# Altium integrated library Dallas Power Mgt Supervisory Circuit.IntLib: 79 symbols (part 2 of 2)
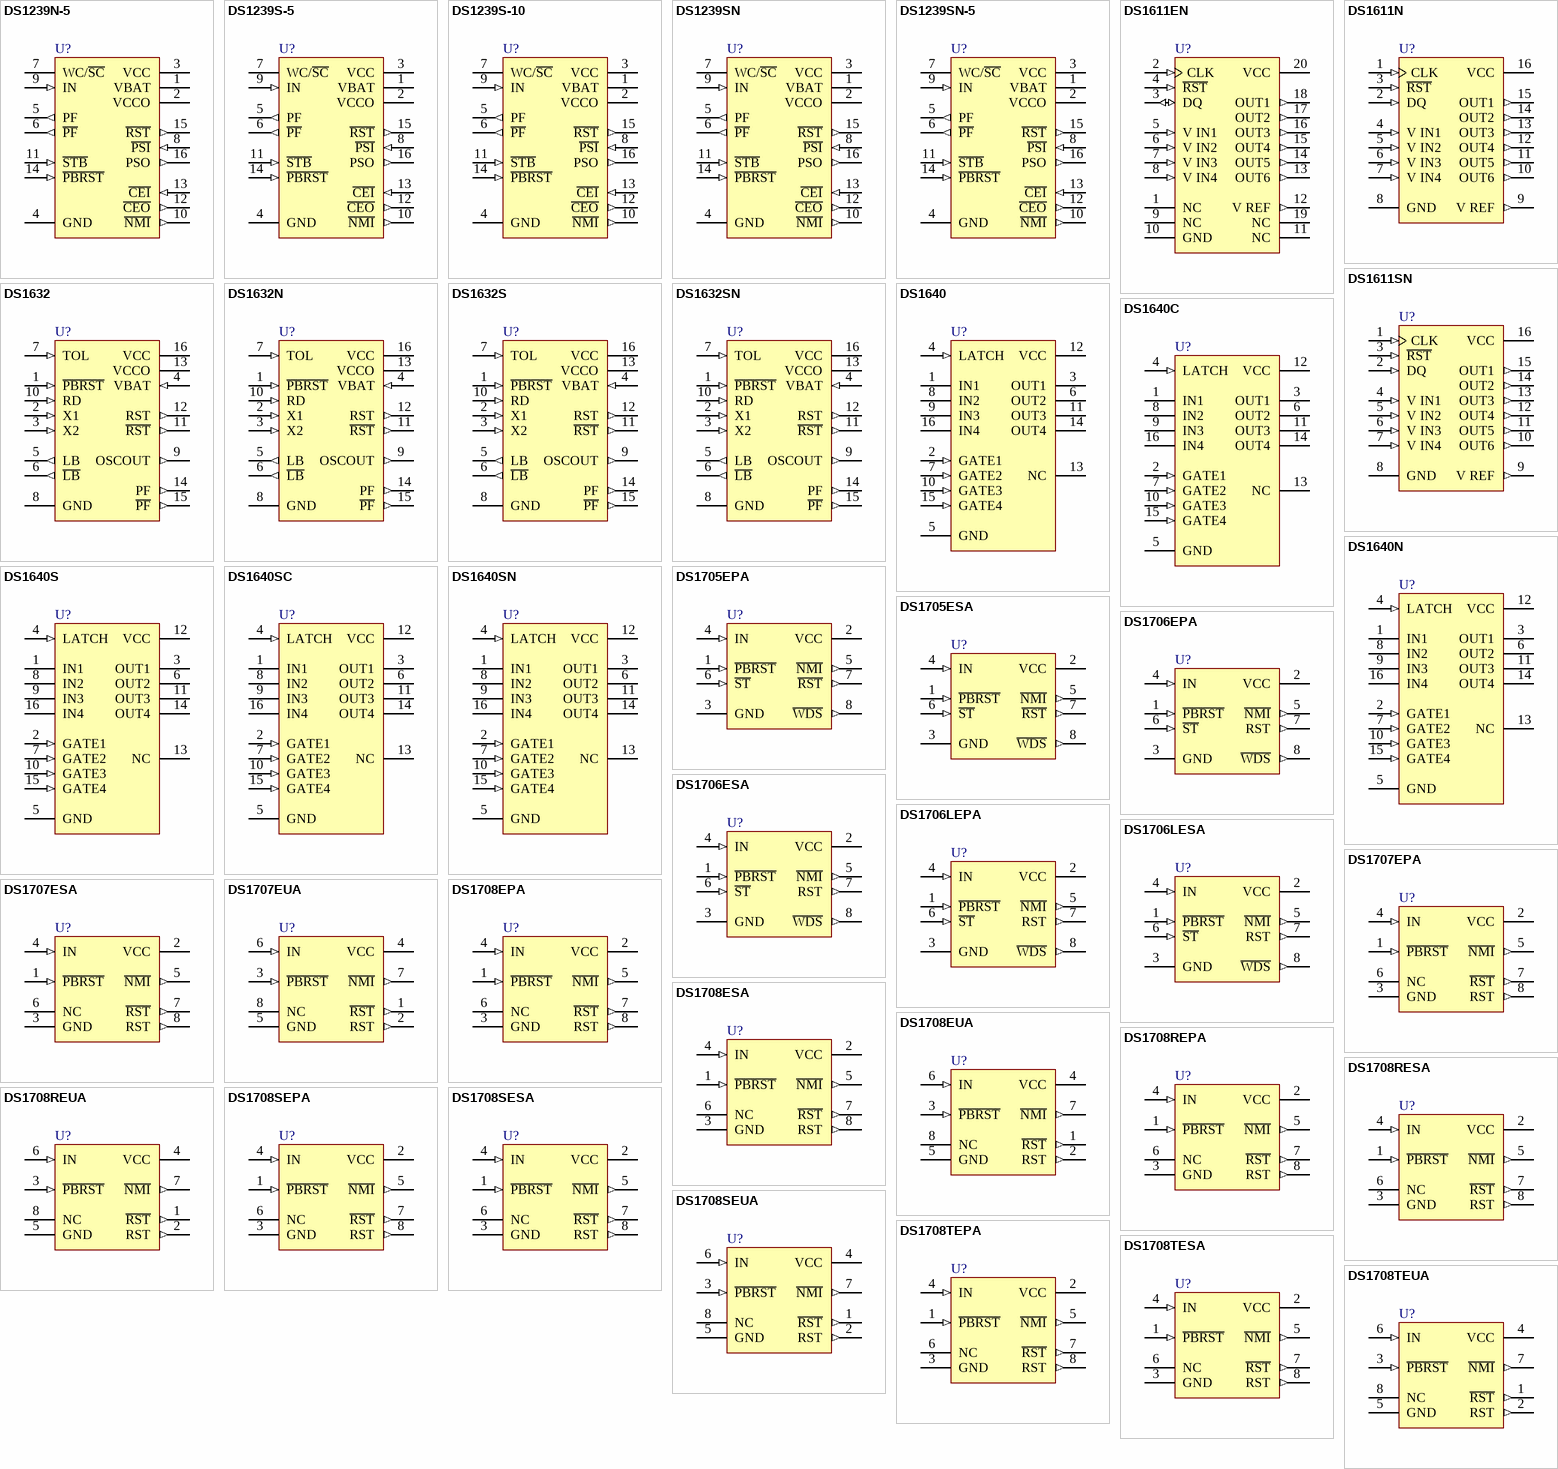
[diagram p2: symbols DS1239N-5 to DS1708TEUA]

## DS1640N
designator U?
Personal Computer Power FET; Note: Pin number 13 is Not Connected (NC); Published: 13-Oct-2000; LatestRevisionDate: 17-Jul-2002; LatestRevisionNote: Re-released for DXP Platform.; DatasheetVersion: 26-Feb-1998; PackageVersion: 1999; PackageReference: DIP16; Publisher: Altium Limited; PackageDescription: DIP, 16-Pin, Row Spacing 7.62 mm, Pitch 2.54 mm; ComponentLink1Description: Manufacturer Link; ComponentLink1URL: http://www.maxim-ic.com/; ComponentLink2Description: Datasheet; ComponentLink2URL: http://pdfserv.maxim-ic.com/en/ds/DS1640-DS1640C.pdf
footprint DIP16 (DIP, 16-Leads, Row Spacing 7.62mm, Pitch 2.54mm, Body 19.31x6.35mm)
pins: 1 IN1, 2 GATE1 (in), 3 OUT1, 4 LATCH (in), 5 GND (power), 6 OUT2, 7 GATE2 (in), 8 IN2, 9 IN3, 10 GATE3 (in), 11 OUT3, 12 VCC (power), 13 NC, 14 OUT4, 15 GATE4 (in), 16 IN4

## DS1640S
designator U?
Personal Computer Power FET; Note: Pin number 13 is Not Connected (NC); Published: 13-Oct-2000; LatestRevisionDate: 13-Apr-2006; LatestRevisionNote: IPC-7351 Footprint Added.; DatasheetVersion: 26-Feb-1998; PackageVersion: 1999; PackageReference: SOIC16W; Publisher: Altium Limited; PackageDescription: 16-Pin Small Outline Integrated Circuit 1.27 mm Pitch; ComponentLink1Description: Manufacturer Link; ComponentLink1URL: http://www.maxim-ic.com/; ComponentLink2Description: Datasheet; ComponentLink2URL: http://pdfserv.maxim-ic.com/en/ds/DS1640-DS1640C.pdf
footprint SOIC16W_N (SOIC, 16-Leads, Body 10.3x7.5mm, Pitch 1.27mm, IPC Medium Density)
footprint SOIC16W_L (SOIC, 16-Leads, Body 10.3x7.5mm, Pitch 1.27mm, IPC High Density)
footprint SOIC16W_M (SOIC, 16-Leads, Body 10.3x7.5mm, Pitch 1.27mm, IPC Low Density)
pins: 1 IN1, 2 GATE1 (in), 3 OUT1, 4 LATCH (in), 5 GND (power), 6 OUT2, 7 GATE2 (in), 8 IN2, 9 IN3, 10 GATE3 (in), 11 OUT3, 12 VCC (power), 13 NC, 14 OUT4, 15 GATE4 (in), 16 IN4

## DS1640SC
designator U?
Personal Computer Power FET; Note: Pin number 13 is Not Connected (NC); Published: 13-Oct-2000; LatestRevisionDate: 13-Apr-2006; LatestRevisionNote: IPC-7351 Footprint Added.; DatasheetVersion: 14-Feb-1992; PackageVersion: 1999; PackageReference: SOIC16W; Publisher: Altium Limited; PackageDescription: 16-Pin Small Outline Integrated Circuit 1.27 mm Pitch; ComponentLink1Description: Manufacturer Link; ComponentLink1URL: http://www.maxim-ic.com/; ComponentLink2Description: Datasheet; ComponentLink2URL: http://pdfserv.maxim-ic.com/en/ds/DS1640-DS1640C.pdf
footprint SOIC16W_N (SOIC, 16-Leads, Body 10.3x7.5mm, Pitch 1.27mm, IPC Medium Density)
footprint SOIC16W_L (SOIC, 16-Leads, Body 10.3x7.5mm, Pitch 1.27mm, IPC High Density)
footprint SOIC16W_M (SOIC, 16-Leads, Body 10.3x7.5mm, Pitch 1.27mm, IPC Low Density)
pins: 1 IN1, 2 GATE1 (in), 3 OUT1, 4 LATCH (in), 5 GND (power), 6 OUT2, 7 GATE2 (in), 8 IN2, 9 IN3, 10 GATE3 (in), 11 OUT3, 12 VCC (power), 13 NC, 14 OUT4, 15 GATE4 (in), 16 IN4

## DS1640SN
designator U?
Personal Computer Power FET; Note: Pin number 13 is Not Connected (NC); Published: 13-Oct-2000; LatestRevisionDate: 13-Apr-2006; LatestRevisionNote: IPC-7351 Footprint Added.; DatasheetVersion: 26-Feb-1998; PackageVersion: 1999; PackageReference: SOIC16W; Publisher: Altium Limited; PackageDescription: 16-Pin Small Outline Integrated Circuit 1.27 mm Pitch; ComponentLink1Description: Manufacturer Link; ComponentLink1URL: http://www.maxim-ic.com/; ComponentLink2Description: Datasheet; ComponentLink2URL: http://pdfserv.maxim-ic.com/en/ds/DS1640-DS1640C.pdf
footprint SOIC16W_N (SOIC, 16-Leads, Body 10.3x7.5mm, Pitch 1.27mm, IPC Medium Density)
footprint SOIC16W_L (SOIC, 16-Leads, Body 10.3x7.5mm, Pitch 1.27mm, IPC High Density)
footprint SOIC16W_M (SOIC, 16-Leads, Body 10.3x7.5mm, Pitch 1.27mm, IPC Low Density)
pins: 1 IN1, 2 GATE1 (in), 3 OUT1, 4 LATCH (in), 5 GND (power), 6 OUT2, 7 GATE2 (in), 8 IN2, 9 IN3, 10 GATE3 (in), 11 OUT3, 12 VCC (power), 13 NC, 14 OUT4, 15 GATE4 (in), 16 IN4

## DS1705EPA
designator U?
3.3 and 5.0 Volt MicroMonitor; Published: 13-Oct-2000; LatestRevisionDate: 17-Jul-2002; LatestRevisionNote: Re-released for DXP Platform.; DatasheetVersion: 4-Sep-1998; PackageVersion: 1999; PackageReference: DIP8; Publisher: Altium Limited; PackageDescription: DIP, 8-Pin, Row Spacing 7.62 mm, Pitch 2.54 mm; ComponentLink1Description: Manufacturer Link; ComponentLink1URL: http://www.maxim-ic.com/; ComponentLink2Description: Datasheet; ComponentLink2URL: http://www.maxim-ic.com/getds.cfm?qv_pk=2761&ln=en
footprint DIP8 (DIP, 8-Leads, Row Spacing 7.62mm, Pitch 2.54mm, Body 9.65x6.35mm)
pins: 1 ~{PBRST} (in), 2 VCC (power), 3 GND (power), 4 IN (in), 5 ~{NMI} (out), 6 ~{ST} (in), 7 ~{RST} (out), 8 ~{WDS} (out)

## DS1705ESA
designator U?
3.3 and 5.0 Volt MicroMonitor; Published: 13-Oct-2000; LatestRevisionDate: 13-Apr-2006; LatestRevisionNote: IPC-7351 Footprint Added.; DatasheetVersion: 4-Sep-1998; PackageVersion: 1999; PackageReference: SOIC8N; Publisher: Altium Limited; PackageDescription: 8-Pin Small Outline Integrated Circuit 1.27 mm Pitch; Code_IPC: SOIC127P600-8; ComponentLink1Description: Manufacturer Link; ComponentLink1URL: http://www.maxim-ic.com/; ComponentLink2Description: Datasheet; ComponentLink2URL: http://www.maxim-ic.com/getds.cfm?qv_pk=2761&ln=en
footprint SOIC8N_N (SOIC, 8-Leads, Body 4.9x3.9mm, Pitch 1.27mm, IPC Medium Density)
footprint SOIC8N_L (SOIC, 8-Leads, Body 4.9x3.9mm, Pitch 1.27mm, IPC High Density)
footprint SOIC8N_M (SOIC, 8-Leads, Body 4.9x3.9mm, Pitch 1.27mm, IPC Low Density)
pins: 1 ~{PBRST} (in), 2 VCC (power), 3 GND (power), 4 IN (in), 5 ~{NMI} (out), 6 ~{ST} (in), 7 ~{RST} (out), 8 ~{WDS} (out)

## DS1706EPA
designator U?
3.3 and 5.0 Volt MicroMonitor; Published: 13-Oct-2000; LatestRevisionDate: 17-Jul-2002; LatestRevisionNote: Re-released for DXP Platform.; DatasheetVersion: 4-Sep-1998; PackageVersion: 1999; PackageReference: DIP8; Publisher: Altium Limited; PackageDescription: DIP, 8-Pin, Row Spacing 7.62 mm, Pitch 2.54 mm; ComponentLink1Description: Manufacturer Link; ComponentLink1URL: http://www.maxim-ic.com/; ComponentLink2Description: Datasheet; ComponentLink2URL: http://www.maxim-ic.com/getds.cfm?qv_pk=2761&ln=en
footprint DIP8 (DIP, 8-Leads, Row Spacing 7.62mm, Pitch 2.54mm, Body 9.65x6.35mm)
pins: 1 ~{PBRST} (in), 2 VCC (power), 3 GND (power), 4 IN (in), 5 ~{NMI} (out), 6 ~{ST} (in), 7 RST (out), 8 ~{WDS} (out)

## DS1706ESA
designator U?
3.3 and 5.0 Volt MicroMonitor; Published: 13-Oct-2000; LatestRevisionDate: 13-Apr-2006; LatestRevisionNote: IPC-7351 Footprint Added.; DatasheetVersion: 4-Sep-1998; PackageVersion: 1999; PackageReference: SOIC8N; Publisher: Altium Limited; PackageDescription: 8-Pin Small Outline Integrated Circuit 1.27 mm Pitch; Code_IPC: SOIC127P600-8; ComponentLink1Description: Manufacturer Link; ComponentLink1URL: http://www.maxim-ic.com/; ComponentLink2Description: Datasheet; ComponentLink2URL: http://www.maxim-ic.com/getds.cfm?qv_pk=2761&ln=en
footprint SOIC8N_N (SOIC, 8-Leads, Body 4.9x3.9mm, Pitch 1.27mm, IPC Medium Density)
footprint SOIC8N_L (SOIC, 8-Leads, Body 4.9x3.9mm, Pitch 1.27mm, IPC High Density)
footprint SOIC8N_M (SOIC, 8-Leads, Body 4.9x3.9mm, Pitch 1.27mm, IPC Low Density)
pins: 1 ~{PBRST} (in), 2 VCC (power), 3 GND (power), 4 IN (in), 5 ~{NMI} (out), 6 ~{ST} (in), 7 RST (out), 8 ~{WDS} (out)

## DS1706LEPA
designator U?
3.3 and 5.0 Volt MicroMonitor; Published: 13-Oct-2000; LatestRevisionDate: 17-Jul-2002; LatestRevisionNote: Re-released for DXP Platform.; DatasheetVersion: 4-Sep-1998; PackageVersion: 1999; PackageReference: DIP8; Publisher: Altium Limited; PackageDescription: DIP, 8-Pin, Row Spacing 7.62 mm, Pitch 2.54 mm; ComponentLink1Description: Manufacturer Link; ComponentLink1URL: http://www.maxim-ic.com/; ComponentLink2Description: Datasheet; ComponentLink2URL: http://www.maxim-ic.com/getds.cfm?qv_pk=2761&ln=en
footprint DIP8 (DIP, 8-Leads, Row Spacing 7.62mm, Pitch 2.54mm, Body 9.65x6.35mm)
pins: 1 ~{PBRST} (in), 2 VCC (power), 3 GND (power), 4 IN (in), 5 ~{NMI} (out), 6 ~{ST} (in), 7 RST (out), 8 ~{WDS} (out)

## DS1706LESA
designator U?
3.3 and 5.0 Volt MicroMonitor; Published: 13-Oct-2000; LatestRevisionDate: 13-Apr-2006; LatestRevisionNote: IPC-7351 Footprint Added.; DatasheetVersion: 4-Sep-1998; PackageVersion: 1999; PackageReference: SOIC8N; Publisher: Altium Limited; PackageDescription: 8-Pin Small Outline Integrated Circuit 1.27 mm Pitch; Code_IPC: SOIC127P600-8; ComponentLink1Description: Manufacturer Link; ComponentLink1URL: http://www.maxim-ic.com/; ComponentLink2Description: Datasheet; ComponentLink2URL: http://www.maxim-ic.com/getds.cfm?qv_pk=2761&ln=en
footprint SOIC8N_N (SOIC, 8-Leads, Body 4.9x3.9mm, Pitch 1.27mm, IPC Medium Density)
footprint SOIC8N_L (SOIC, 8-Leads, Body 4.9x3.9mm, Pitch 1.27mm, IPC High Density)
footprint SOIC8N_M (SOIC, 8-Leads, Body 4.9x3.9mm, Pitch 1.27mm, IPC Low Density)
pins: 1 ~{PBRST} (in), 2 VCC (power), 3 GND (power), 4 IN (in), 5 ~{NMI} (out), 6 ~{ST} (in), 7 RST (out), 8 ~{WDS} (out)

## DS1707EPA
designator U?
3.3 and 5.0 Volt MicroMonitor; Note: Pin number 6 is Not Connected (NC); Published: 13-Oct-2000; LatestRevisionDate: 17-Jul-2002; LatestRevisionNote: Re-released for DXP Platform.; DatasheetVersion: 4-Sep-1998; PackageVersion: 1999; PackageReference: DIP8; Publisher: Altium Limited; PackageDescription: DIP, 8-Pin, Row Spacing 7.62 mm, Pitch 2.54 mm; ComponentLink1Description: Manufacturer Link; ComponentLink1URL: http://www.maxim-ic.com/; ComponentLink2Description: Datasheet; ComponentLink2URL: http://www.maxim-ic.com/getds.cfm?qv_pk=2762&ln=en
footprint DIP8 (DIP, 8-Leads, Row Spacing 7.62mm, Pitch 2.54mm, Body 9.65x6.35mm)
pins: 1 ~{PBRST} (in), 2 VCC (power), 3 GND (power), 4 IN (in), 5 ~{NMI} (out), 6 NC, 7 ~{RST} (out), 8 RST (out)

## DS1707ESA
designator U?
3.3 and 5.0 Volt MicroMonitor; Note: Pin number 6 is Not Connected (NC); Published: 13-Oct-2000; LatestRevisionDate: 13-Apr-2006; LatestRevisionNote: IPC-7351 Footprint Added.; DatasheetVersion: 4-Sep-1998; PackageVersion: 1999; PackageReference: SOIC8N; Publisher: Altium Limited; PackageDescription: 8-Pin Small Outline Integrated Circuit 1.27 mm Pitch; Code_IPC: SOIC127P600-8; ComponentLink1Description: Manufacturer Link; ComponentLink1URL: http://www.maxim-ic.com/; ComponentLink2Description: Datasheet; ComponentLink2URL: http://www.maxim-ic.com/getds.cfm?qv_pk=2762&ln=en
footprint SOIC8N_N (SOIC, 8-Leads, Body 4.9x3.9mm, Pitch 1.27mm, IPC Medium Density)
footprint SOIC8N_L (SOIC, 8-Leads, Body 4.9x3.9mm, Pitch 1.27mm, IPC High Density)
footprint SOIC8N_M (SOIC, 8-Leads, Body 4.9x3.9mm, Pitch 1.27mm, IPC Low Density)
pins: 1 ~{PBRST} (in), 2 VCC (power), 3 GND (power), 4 IN (in), 5 ~{NMI} (out), 6 NC, 7 ~{RST} (out), 8 RST (out)

## DS1707EUA
designator U?
3.3 and 5.0 Volt MicroMonitor; Note: Pin number 8 is Not Connected (NC); Published: 13-Oct-2000; LatestRevisionDate: 20-Nov-2009; LatestRevisionNote: IPC-7351 Footprint Added.; DatasheetVersion: 4-Sep-1998; PackageReference: uSOP8; Publisher: Altium Limited; PackageDescription: 8-Pin Thin Small Outline Package 0.65 mm Pitch; ComponentLink1Description: Manufacturer Link; ComponentLink1URL: http://www.maxim-ic.com/; ComponentLink2Description: Datasheet; ComponentLink2URL: http://www.maxim-ic.com/getds.cfm?qv_pk=2762&ln=en
footprint uSOP8_N (TSOP, 8-Leads, Body 3x3mm, Pitch 0.65mm, IPC Medium Density)
footprint uSOP8_L (TSOP, 8-Leads, Body 3x3mm, Pitch 0.65mm, IPC High Density)
footprint uSOP8_M (TSOP, 8-Leads, Body 3x3mm, Pitch 0.65mm, IPC Low Density)
pins: 1 ~{RST} (out), 2 RST (out), 3 ~{PBRST} (in), 4 VCC (power), 5 GND (power), 6 IN (in), 7 ~{NMI} (out), 8 NC

## DS1708EPA
designator U?
3.3 and 5.0 Volt MicroMonitor; Note: Pin number 6 is Not Connected (NC); Published: 13-Oct-2000; LatestRevisionDate: 17-Jul-2002; LatestRevisionNote: Re-released for DXP Platform.; DatasheetVersion: 4-Sep-1998; PackageVersion: 1999; PackageReference: DIP8; Publisher: Altium Limited; PackageDescription: DIP, 8-Pin, Row Spacing 7.62 mm, Pitch 2.54 mm; ComponentLink1Description: Manufacturer Link; ComponentLink1URL: http://www.maxim-ic.com/; ComponentLink2Description: Datasheet; ComponentLink2URL: http://www.maxim-ic.com/getds.cfm?qv_pk=2762&ln=en
footprint DIP8 (DIP, 8-Leads, Row Spacing 7.62mm, Pitch 2.54mm, Body 9.65x6.35mm)
pins: 1 ~{PBRST} (in), 2 VCC (power), 3 GND (power), 4 IN (in), 5 ~{NMI} (out), 6 NC, 7 ~{RST} (out), 8 RST (out)

## DS1708ESA
designator U?
3.3 and 5.0 Volt MicroMonitor; Note: Pin number 6 is Not Connected (NC); Published: 13-Oct-2000; LatestRevisionDate: 13-Apr-2006; LatestRevisionNote: IPC-7351 Footprint Added.; DatasheetVersion: 4-Sep-1998; PackageVersion: 1999; PackageReference: SOIC8N; Publisher: Altium Limited; PackageDescription: 8-Pin Small Outline Integrated Circuit 1.27 mm Pitch; Code_IPC: SOIC127P600-8; ComponentLink1Description: Manufacturer Link; ComponentLink1URL: http://www.maxim-ic.com/; ComponentLink2Description: Datasheet; ComponentLink2URL: http://www.maxim-ic.com/getds.cfm?qv_pk=2762&ln=en
footprint SOIC8N_N (SOIC, 8-Leads, Body 4.9x3.9mm, Pitch 1.27mm, IPC Medium Density)
footprint SOIC8N_L (SOIC, 8-Leads, Body 4.9x3.9mm, Pitch 1.27mm, IPC High Density)
footprint SOIC8N_M (SOIC, 8-Leads, Body 4.9x3.9mm, Pitch 1.27mm, IPC Low Density)
pins: 1 ~{PBRST} (in), 2 VCC (power), 3 GND (power), 4 IN (in), 5 ~{NMI} (out), 6 NC, 7 ~{RST} (out), 8 RST (out)

## DS1708EUA
designator U?
3.3 and 5.0 Volt MicroMonitor; Note: Pin number 8 is Not Connected (NC); Published: 13-Oct-2000; LatestRevisionDate: 20-Nov-2009; LatestRevisionNote: IPC-7351 Footprint Added.; DatasheetVersion: 4-Sep-1998; PackageReference: uSOP8; Publisher: Altium Limited; PackageDescription: 8-Pin Thin Small Outline Package 0.65 mm Pitch; ComponentLink1Description: Manufacturer Link; ComponentLink1URL: http://www.maxim-ic.com/; ComponentLink2Description: Datasheet; ComponentLink2URL: http://www.maxim-ic.com/getds.cfm?qv_pk=2762&ln=en
footprint uSOP8_N (TSOP, 8-Leads, Body 3x3mm, Pitch 0.65mm, IPC Medium Density)
footprint uSOP8_L (TSOP, 8-Leads, Body 3x3mm, Pitch 0.65mm, IPC High Density)
footprint uSOP8_M (TSOP, 8-Leads, Body 3x3mm, Pitch 0.65mm, IPC Low Density)
pins: 1 ~{RST} (out), 2 RST (out), 3 ~{PBRST} (in), 4 VCC (power), 5 GND (power), 6 IN (in), 7 ~{NMI} (out), 8 NC

## DS1708REPA
designator U?
3.3 and 5.0 Volt MicroMonitor; Note: Pin number 6 is Not Connected (NC); Published: 13-Oct-2000; LatestRevisionDate: 17-Jul-2002; LatestRevisionNote: Re-released for DXP Platform.; DatasheetVersion: 4-Sep-1998; PackageVersion: 1999; PackageReference: DIP8; Publisher: Altium Limited; PackageDescription: DIP, 8-Pin, Row Spacing 7.62 mm, Pitch 2.54 mm; ComponentLink1Description: Manufacturer Link; ComponentLink1URL: http://www.maxim-ic.com/; ComponentLink2Description: Datasheet; ComponentLink2URL: http://www.maxim-ic.com/getds.cfm?qv_pk=2762&ln=en
footprint DIP8 (DIP, 8-Leads, Row Spacing 7.62mm, Pitch 2.54mm, Body 9.65x6.35mm)
pins: 1 ~{PBRST} (in), 2 VCC (power), 3 GND (power), 4 IN (in), 5 ~{NMI} (out), 6 NC, 7 ~{RST} (out), 8 RST (out)

## DS1708RESA
designator U?
3.3 and 5.0 Volt MicroMonitor; Note: Pin number 6 is Not Connected (NC); Published: 13-Oct-2000; LatestRevisionDate: 13-Apr-2006; LatestRevisionNote: IPC-7351 Footprint Added.; DatasheetVersion: 4-Sep-1998; PackageVersion: 1999; PackageReference: SOIC8N; Publisher: Altium Limited; PackageDescription: 8-Pin Small Outline Integrated Circuit 1.27 mm Pitch; Code_IPC: SOIC127P600-8; ComponentLink1Description: Manufacturer Link; ComponentLink1URL: http://www.maxim-ic.com/; ComponentLink2Description: Datasheet; ComponentLink2URL: http://www.maxim-ic.com/getds.cfm?qv_pk=2762&ln=en
footprint SOIC8N_N (SOIC, 8-Leads, Body 4.9x3.9mm, Pitch 1.27mm, IPC Medium Density)
footprint SOIC8N_L (SOIC, 8-Leads, Body 4.9x3.9mm, Pitch 1.27mm, IPC High Density)
footprint SOIC8N_M (SOIC, 8-Leads, Body 4.9x3.9mm, Pitch 1.27mm, IPC Low Density)
pins: 1 ~{PBRST} (in), 2 VCC (power), 3 GND (power), 4 IN (in), 5 ~{NMI} (out), 6 NC, 7 ~{RST} (out), 8 RST (out)

## DS1708REUA
designator U?
3.3 and 5.0 Volt MicroMonitor; Note: Pin number 8 is Not Connected (NC); Published: 13-Oct-2000; LatestRevisionDate: 20-Nov-2009; LatestRevisionNote: IPC-7351 Footprint Added.; DatasheetVersion: 4-Sep-1998; PackageReference: uSOP8; Publisher: Altium Limited; PackageDescription: 8-Pin Thin Small Outline Package 0.65 mm Pitch; ComponentLink1Description: Manufacturer Link; ComponentLink1URL: http://www.maxim-ic.com/; ComponentLink2Description: Datasheet; ComponentLink2URL: http://www.maxim-ic.com/getds.cfm?qv_pk=2762&ln=en
footprint uSOP8_N (TSOP, 8-Leads, Body 3x3mm, Pitch 0.65mm, IPC Medium Density)
footprint uSOP8_L (TSOP, 8-Leads, Body 3x3mm, Pitch 0.65mm, IPC High Density)
footprint uSOP8_M (TSOP, 8-Leads, Body 3x3mm, Pitch 0.65mm, IPC Low Density)
pins: 1 ~{RST} (out), 2 RST (out), 3 ~{PBRST} (in), 4 VCC (power), 5 GND (power), 6 IN (in), 7 ~{NMI} (out), 8 NC

## DS1708SEPA
designator U?
3.3 and 5.0 Volt MicroMonitor; Note: Pin number 6 is Not Connected (NC); Published: 13-Oct-2000; LatestRevisionDate: 17-Jul-2002; LatestRevisionNote: Re-released for DXP Platform.; DatasheetVersion: 4-Sep-1998; PackageVersion: 1999; PackageReference: DIP8; Publisher: Altium Limited; PackageDescription: DIP, 8-Pin, Row Spacing 7.62 mm, Pitch 2.54 mm; ComponentLink1Description: Manufacturer Link; ComponentLink1URL: http://www.maxim-ic.com/; ComponentLink2Description: Datasheet; ComponentLink2URL: http://www.maxim-ic.com/getds.cfm?qv_pk=2762&ln=en
footprint DIP8 (DIP, 8-Leads, Row Spacing 7.62mm, Pitch 2.54mm, Body 9.65x6.35mm)
pins: 1 ~{PBRST} (in), 2 VCC (power), 3 GND (power), 4 IN (in), 5 ~{NMI} (out), 6 NC, 7 ~{RST} (out), 8 RST (out)

## DS1708SESA
designator U?
3.3 and 5.0 Volt MicroMonitor; Note: Pin number 6 is Not Connected (NC); Published: 13-Oct-2000; LatestRevisionDate: 13-Apr-2006; LatestRevisionNote: IPC-7351 Footprint Added.; DatasheetVersion: 4-Sep-1998; PackageVersion: 1999; PackageReference: SOIC8N; Publisher: Altium Limited; PackageDescription: 8-Pin Small Outline Integrated Circuit 1.27 mm Pitch; Code_IPC: SOIC127P600-8; ComponentLink1Description: Manufacturer Link; ComponentLink1URL: http://www.maxim-ic.com/; ComponentLink2Description: Datasheet; ComponentLink2URL: http://www.maxim-ic.com/getds.cfm?qv_pk=2762&ln=en
footprint SOIC8N_N (SOIC, 8-Leads, Body 4.9x3.9mm, Pitch 1.27mm, IPC Medium Density)
footprint SOIC8N_L (SOIC, 8-Leads, Body 4.9x3.9mm, Pitch 1.27mm, IPC High Density)
footprint SOIC8N_M (SOIC, 8-Leads, Body 4.9x3.9mm, Pitch 1.27mm, IPC Low Density)
pins: 1 ~{PBRST} (in), 2 VCC (power), 3 GND (power), 4 IN (in), 5 ~{NMI} (out), 6 NC, 7 ~{RST} (out), 8 RST (out)

## DS1708SEUA
designator U?
3.3 and 5.0 Volt MicroMonitor; Note: Pin number 8 is Not Connected (NC); Published: 13-Oct-2000; LatestRevisionDate: 20-Nov-2009; LatestRevisionNote: IPC-7351 Footprint Added.; DatasheetVersion: 4-Sep-1998; PackageReference: uSOP8; Publisher: Altium Limited; PackageDescription: 8-Pin Thin Small Outline Package 0.65 mm Pitch; ComponentLink1Description: Manufacturer Link; ComponentLink1URL: http://www.maxim-ic.com/; ComponentLink2Description: Datasheet; ComponentLink2URL: http://www.maxim-ic.com/getds.cfm?qv_pk=2762&ln=en
footprint uSOP8_N (TSOP, 8-Leads, Body 3x3mm, Pitch 0.65mm, IPC Medium Density)
footprint uSOP8_L (TSOP, 8-Leads, Body 3x3mm, Pitch 0.65mm, IPC High Density)
footprint uSOP8_M (TSOP, 8-Leads, Body 3x3mm, Pitch 0.65mm, IPC Low Density)
pins: 1 ~{RST} (out), 2 RST (out), 3 ~{PBRST} (in), 4 VCC (power), 5 GND (power), 6 IN (in), 7 ~{NMI} (out), 8 NC

## DS1708TEPA
designator U?
3.3 and 5.0 Volt MicroMonitor; Note: Pin number 6 is Not Connected (NC); Published: 13-Oct-2000; LatestRevisionDate: 17-Jul-2002; LatestRevisionNote: Re-released for DXP Platform.; DatasheetVersion: 4-Sep-1998; PackageVersion: 1999; PackageReference: DIP8; Publisher: Altium Limited; PackageDescription: DIP, 8-Pin, Row Spacing 7.62 mm, Pitch 2.54 mm; ComponentLink1Description: Manufacturer Link; ComponentLink1URL: http://www.maxim-ic.com/; ComponentLink2Description: Datasheet; ComponentLink2URL: http://www.maxim-ic.com/getds.cfm?qv_pk=2762&ln=en
footprint DIP8 (DIP, 8-Leads, Row Spacing 7.62mm, Pitch 2.54mm, Body 9.65x6.35mm)
pins: 1 ~{PBRST} (in), 2 VCC (power), 3 GND (power), 4 IN (in), 5 ~{NMI} (out), 6 NC, 7 ~{RST} (out), 8 RST (out)

## DS1708TESA
designator U?
3.3 and 5.0 Volt MicroMonitor; Note: Pin number 6 is Not Connected (NC); Published: 13-Oct-2000; LatestRevisionDate: 13-Apr-2006; LatestRevisionNote: IPC-7351 Footprint Added.; DatasheetVersion: 4-Sep-1998; PackageVersion: 1999; PackageReference: SOIC8N; Publisher: Altium Limited; PackageDescription: 8-Pin Small Outline Integrated Circuit 1.27 mm Pitch; Code_IPC: SOIC127P600-8; ComponentLink1Description: Manufacturer Link; ComponentLink1URL: http://www.maxim-ic.com/; ComponentLink2Description: Datasheet; ComponentLink2URL: http://www.maxim-ic.com/getds.cfm?qv_pk=2762&ln=en
footprint SOIC8N_N (SOIC, 8-Leads, Body 4.9x3.9mm, Pitch 1.27mm, IPC Medium Density)
footprint SOIC8N_L (SOIC, 8-Leads, Body 4.9x3.9mm, Pitch 1.27mm, IPC High Density)
footprint SOIC8N_M (SOIC, 8-Leads, Body 4.9x3.9mm, Pitch 1.27mm, IPC Low Density)
pins: 1 ~{PBRST} (in), 2 VCC (power), 3 GND (power), 4 IN (in), 5 ~{NMI} (out), 6 NC, 7 ~{RST} (out), 8 RST (out)

## DS1708TEUA
designator U?
3.3 and 5.0 Volt MicroMonitor; Note: Pin number 8 is Not Connected (NC); Published: 13-Oct-2000; LatestRevisionDate: 20-Nov-2009; LatestRevisionNote: IPC-7351 Footprint Added.; DatasheetVersion: 4-Sep-1998; PackageReference: uSOP8; Publisher: Altium Limited; PackageDescription: 8-Pin Thin Small Outline Package 0.65 mm Pitch; ComponentLink1Description: Manufacturer Link; ComponentLink1URL: http://www.maxim-ic.com/; ComponentLink2Description: Datasheet; ComponentLink2URL: http://www.maxim-ic.com/getds.cfm?qv_pk=2762&ln=en
footprint uSOP8_N (TSOP, 8-Leads, Body 3x3mm, Pitch 0.65mm, IPC Medium Density)
footprint uSOP8_L (TSOP, 8-Leads, Body 3x3mm, Pitch 0.65mm, IPC High Density)
footprint uSOP8_M (TSOP, 8-Leads, Body 3x3mm, Pitch 0.65mm, IPC Low Density)
pins: 1 ~{RST} (out), 2 RST (out), 3 ~{PBRST} (in), 4 VCC (power), 5 GND (power), 6 IN (in), 7 ~{NMI} (out), 8 NC